# Altium schematic symbol library SG3525.SCHLIB: 1 symbol
Pins are listed as number, name and electrical type; pins without a type are passive.

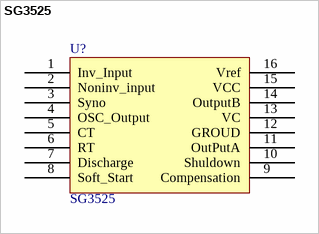
[diagram p0: symbol SG3525]

## SG3525
designator U?
footprint DIP16
pins: 1 Inv_Input, 2 Noninv_input, 3 Syno, 4 OSC_Output, 5 CT, 6 RT, 7 Discharge, 8 Soft_Start, 9 Compensation, 10 Shuldown, 11 OutPutA, 12 GROUD, 13 VC, 14 OutputB, 15 VCC, 16 Vref